# Altium footprint library cherry_mx_sw.PcbLib: 1 footprints
Each footprint in its own frame and in the unit in brackets; x right, y up, seen from the top. Pads: shape width x height; smd on the part's side, far side on the other; paste and mask are expansions set on the pad; w line width, h text height; cw(c..) or ccw(c..) is an arc to the next point about the centre after c.
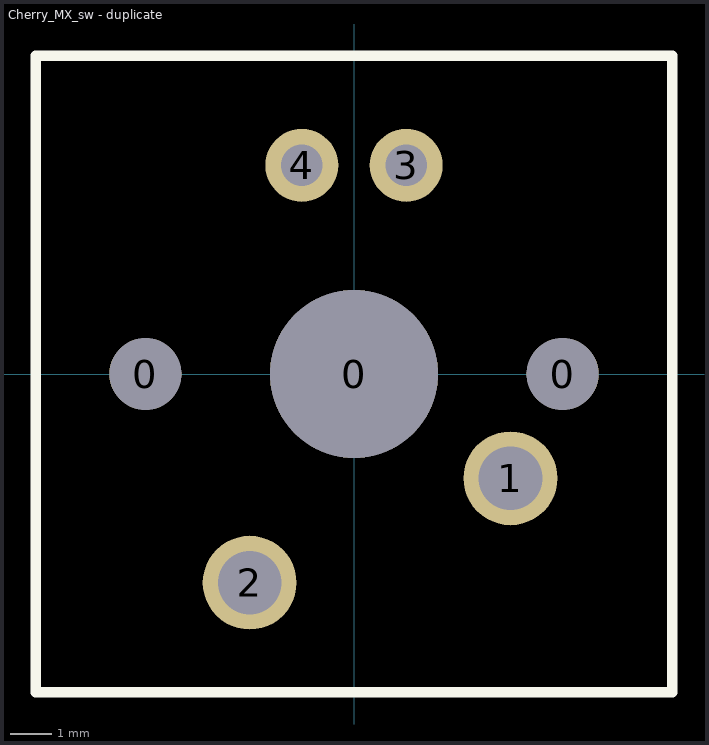
[diagram p0: the footprint, top view; thin cyan lines are the x and y axes]

## Cherry_MX_sw - duplicate [mil]
pads (7):
  round 69 hole 69: 0(-200,0) 0(200,0)
  round 161 hole 161: 0(0,0)
  round 90 hole 61: 1(150,-100) 2(-100,-200)
  round 70 hole 40: 3(50,200) 4(-50,200)
Top Overlay:
  lines w10: -305,-305 305,-305 305,305 -305,305 -305,-305
3D body "CherrySwitch_LED.stp": height 586.61, standoff -133.86, extent -307.08,-313.18 307.09,313.2